# Altium footprint library rl-lora.PcbLib: 1 footprints
Each footprint in its own frame and in the unit in brackets; x right, y up, seen from the top. Pads: shape width x height; smd on the part's side, far side on the other; paste and mask are expansions set on the pad; w line width, h text height; cw(c..) or ccw(c..) is an arc to the next point about the centre after c.
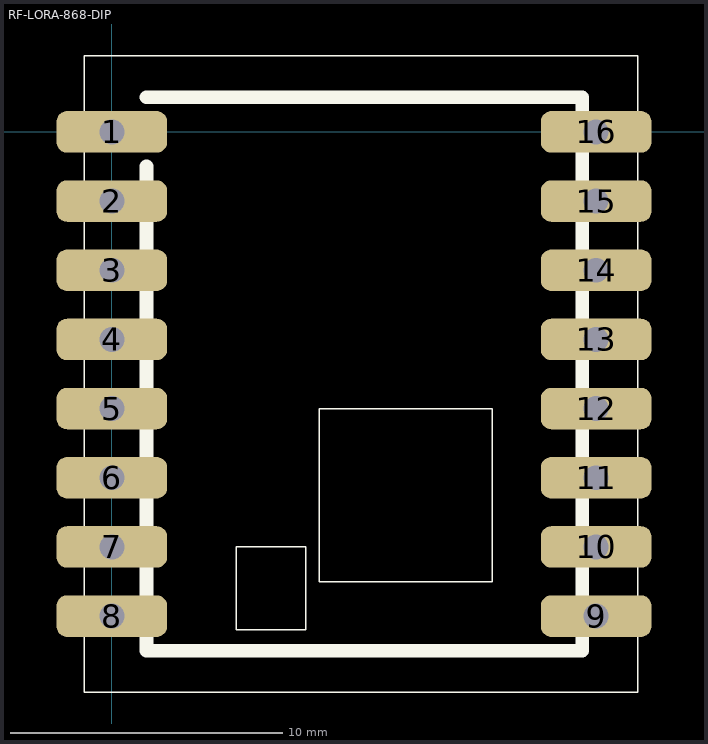
[diagram p0: the footprint, top view; thin cyan lines are the x and y axes]

## RF-LORA-868-DIP [mil]
pads (16):
  rrect50% 160x60 hole 36: 1(0,0) 2(0,-100) 3(0,-200) 4(0,-300) 5(0,-400) 6(0,-500) 7(0,-600) 8(0,-700) 9(700,-700) 10(700,-600) 11(700,-500) 12(700,-400) 13(700,-300) 14(700,-200) 15(700,-100) 16(700,0)
Top Overlay:
  lines w2: -40,-810 -40,110 760,110 760,-810 -40,-810 ; 180,-720 280,-720 280,-600 180,-600 180,-720 ; 300,-650 550,-650 550,-400 300,-400 300,-650
  lines w20: 50,-50 50,-750 680,-750 680,50 50,50
3D body "module_lora.step": height 78.74, standoff 0, extent -42.72,-820.71 742.72,90.71